# Altium footprint library Speeduino_FootPrints.PcbLib: 3 footprints
Each footprint in its own frame and in the unit in brackets; x right, y up, seen from the top. Pads: shape width x height; smd on the part's side, far side on the other; paste and mask are expansions set on the pad; w line width, h text height; cw(c..) or ccw(c..) is an arc to the next point about the centre after c.
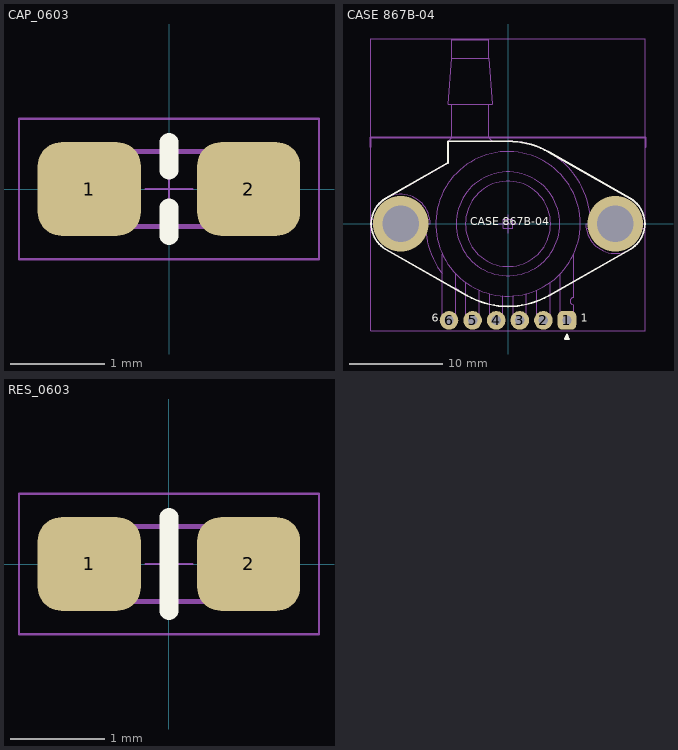
[diagram p0: the footprints below, top view; thin cyan lines are the x and y axes]

## CAP_0603 [mm]
height 0.5
pads (2):
  rrect50% 1.1x1 smd: 1(-0.85,0) 2(0.85,0)
Top Overlay:
  lines w0.2: 0,-0.5 0,-0.2 ; 0,0.2 0,0.5
Top Assembly:
  lines w0.05: -0.5,-0.4 -0.5,0.4 ; 0.5,-0.4 0.5,0.4 ; -0.8,-0.4 -0.8,0.4 0.8,0.4 0.8,-0.4 -0.8,-0.4
  text ".Designator" at -1.854,-0.197 h0.9
Top Courtyard:
  lines w0.025: -0.25,0 0.25,0 ; 0,-0.25 0,0.25 ; -1.6,-0.75 1.6,-0.75 1.6,0.75 -1.6,0.75 -1.6,-0.75
Top Value:
  text ".Value" at -0.983,-1.281 h0.9
3D body "CircuitWorks-CAPACITOR 0603.step": height 0.87, standoff 0.01, extent -0.8,-0.43 0.8,0.43

## CASE 867B-04 [mm] "Pressure sensor case THT"
height 8.3
pads (6):
  rrect50% 2x2 hole 1: 1(6.35,-10.39)
  round 2 hole 1: 2(3.81,-10.39) 3(1.27,-10.39) 4(-1.27,-10.39) 5(-3.81,-10.39) 6(-6.35,-10.39)
via 11.555,0 diameter 6 hole 3.965
via -11.555,0 diameter 6 hole 3.965
Top Overlay:
  lines w0.2: -13.18,-2.731 -4.395,-7.728 ccw(c0,0) 4.395,-7.728 13.18,-2.731 ; -13.18,2.731 -6.448,6.56 -6.448,8.89 0,8.89 ; -13.179,-2.731 cw(c-11.555,0) -13.179,2.731 ; 6.25,-12.4 6.35,-11.9 ; 6.35,-12.4 6.35,-11.9 ; 6.45,-12.4 6.35,-11.9 ; 13.179,-2.731 ccw(c11.555,0) 13.179,2.731 ; 13.18,2.731 4.395,7.728 ; 0,8.89 cw(c0,0) 4.395,7.728 ; 0,8.89 cw(c0,0) 4.395,7.728 ; 6.35,-11.9 6.55,-12.4 6.15,-12.4 6.35,-11.9
  text "6" at -8.234,-10.858 h1.5
  text "1" at 7.859,-10.862 h1.5
  text "CASE 867B-04" at -4.07,-0.47 h1.5
Top Assembly:
  circle w0.1: c-11.555,0 r1.983
  circle w0.1: c11.555,0 r1.983
  circle w0.1: c0,0 r5.587
  circle w0.1: c0,0 r4.587
  circle w0.1: c0,0 r7.78
  lines w0.1: -14.693,0.5 -13.473,0.5 ; -13.538,0 -14.733,0 cw(c-11.555,0) -8.378,0 -9.573,0 ; -13.179,-2.731 cw(c-11.555,0) -13.179,2.731 ; -13.126,-2.762 -7.065,-6.209 ; -13.126,2.762 -6.448,6.56 -6.448,8.89 ; -9.637,0.5 -8.417,0.5 ; -8.89,0 ccw(c0,0) -7.065,-5.396 ; -7.065,-3.258 -7.065,-10.578 -5.635,-10.578 -5.635,-5.364 ; -6.06,12.89 -6.06,9.28 ; -5.635,-7.022 -4.525,-7.652 cw(c0,0) -5.635,-6.876 ; -4.525,-6.329 -4.525,-10.578 -3.095,-10.578 -3.095,-7.138 ; -3.095,-8.334 ccw(c0,0) -1.985,-8.666 ; -2.06,12.89 -2.06,9.28 ; -1.985,-7.523 -1.985,-10.578 -0.555,-10.578 -0.555,-7.76 ; -1.673,8.89 -2.06,9.28 ; -0.555,-8.873 ccw(c0,0) 0.555,-8.873 ; 0.555,-7.76 0.555,-10.578 1.985,-10.578 1.985,-7.523 ; 1.985,-8.666 ccw(c0,0) 3.095,-8.334 ; 3.095,-7.138 3.095,-10.578 4.525,-10.578 4.525,-6.329 ; 4.525,-7.652 5.635,-7.022 ; 5.635,-5.364 5.635,-10.578 7.065,-10.578 7.065,-8.704 cw(c7.065,-8.329) 7.065,-7.954 7.065,-3.258 ; 7.065,-6.209 13.126,-2.762 ; 8.417,-0.5 9.637,-0.5 ; 8.89,0 ccw(c0,0) 0,8.89 ; 9.573,0 8.378,0 ccw(c11.555,0) 14.733,0 13.538,0 ; 13.126,2.762 4.395,7.728 ccw(c0,0) 0,8.89 ; 13.179,-2.731 ccw(c11.555,0) 13.179,2.731 ; 13.473,-0.5 14.693,-0.5 ; -6.448,8.89 -6.06,9.28 ; -6.448,8.89 0,8.89 ; -6.06,9.28 -2.06,9.28 ; -6.06,17.815 -6.45,12.89 -1.67,12.89 -2.06,17.815 ; -6.06,17.815 -2.06,17.815 ; -6.06,17.815 -6.06,19.815 -2.06,19.815 -2.06,17.815 ; -0.5,-0.5 -0.5,0.5 0.5,0.5 0.5,-0.5 -0.5,-0.5
  text "6" at -6.584,-10.468 h1.5
  text "1" at 6.209,-10.472 h1.5
  text ".Designator" at -3.086,1.672 h1.5
Top Courtyard:
  lines w0.1: -1,0 1,0 ; 0,-1 0,1 ; -14.8,-11.5 -14.8,19.9 14.8,19.9 14.8,-11.5 -14.8,-11.5
Top Value:
  text ".PartNumber" at -3.368,-2.468 h1.5
Assembly Notes:
  lines w0.2: -14.8,8.28 -14.8,9.28 14.8,9.28 14.8,8.28
  text "Board Edge" at -3.134,7.952 h1.5
3D body "MPX5100GP.STEP": height 8, standoff -2.32, extent -14.733,-10.58 14.733,19.815

## RES_0603 [mm] "Chip Resistor, 2-Leads, Body 1,6x0,8mm, IPC High Density"
height 0.5
pads (2):
  rrect50% 1.1x1 smd: 1(-0.85,0) 2(0.85,0)
Top Overlay:
  lines w0.2: 0,-0.5 0,0.5
Top Assembly:
  lines w0.05: -0.5,-0.4 -0.5,0.4 ; 0.5,-0.4 0.5,0.4 ; -0.8,-0.4 -0.8,0.4 0.8,0.4 0.8,-0.4 -0.8,-0.4
  text ".Designator" at -1.854,-0.197 h0.9
Top Courtyard:
  lines w0.025: -0.25,0 0.25,0 ; 0,-0.25 0,0.25 ; -1.6,-0.75 1.6,-0.75 1.6,0.75 -1.6,0.75 -1.6,-0.75
Top Value:
  text ".Value" at -0.983,-1.281 h0.9
3D body: height 0.5, standoff 0.01, extent -0.8,-0.43 0.8,0.43
3D body: height 0.51, standoff 0, extent -0.81,-0.424 -0.386,0.425
3D body: height 0.51, standoff 0, extent 0.385,-0.424 0.81,0.425